# EAGLE library part LAN8700 (library JLB6_Processor)
MII/RMII Ethernet PHY LAN8700 Smsc
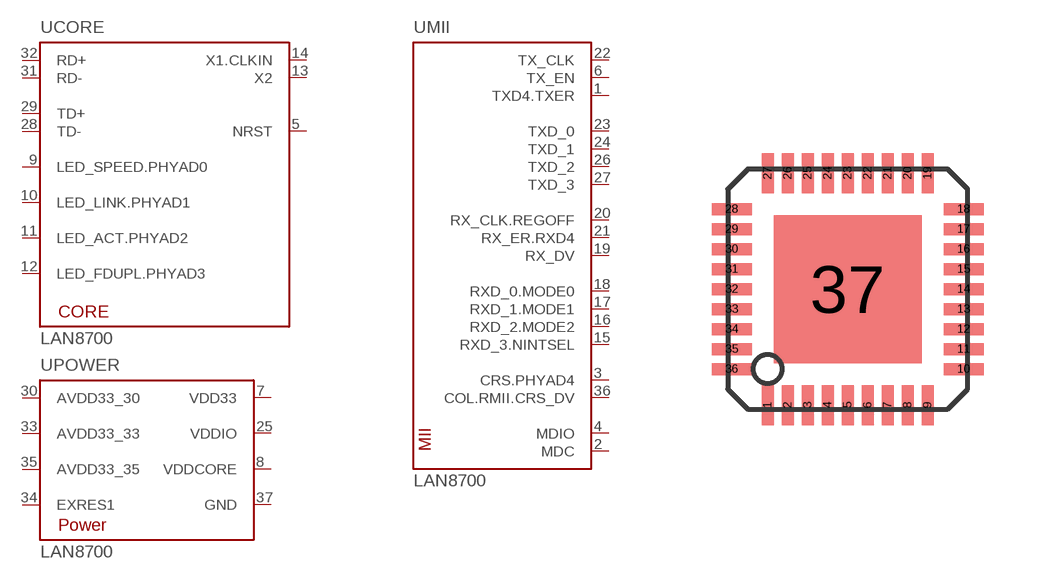
[diagram p17: symbol with the pads of QFN36; footprint QFN36]

Designator prefix U; gates CORE=LAN8700_CORE MII=LAN8700_MII POWER=LAN8700_POWER

## LAN8700  [QFN36]
1  MII:TXD4.TXER
2  MII:MDC  in
3  MII:CRS.PHYAD4
4  MII:MDIO
5  CORE:NRST  out
6  MII:TX_EN
7  POWER:VDD33  pwr
8  POWER:VDDCORE  pwr
9  CORE:LED_SPEED.PHYAD0
10  CORE:LED_LINK.PHYAD1
11  CORE:LED_ACT.PHYAD2
12  CORE:LED_FDUPL.PHYAD3
13  CORE:X2  out
14  CORE:X1.CLKIN  in
15  MII:RXD_3.NINTSEL
16  MII:RXD_2.MODE2
17  MII:RXD_1.MODE1
18  MII:RXD_0.MODE0
19  MII:RX_DV
20  MII:RX_CLK.REGOFF
21  MII:RX_ER.RXD4
22  MII:TX_CLK  out
23  MII:TXD_0
24  MII:TXD_1
25  POWER:VDDIO  pwr
26  MII:TXD_2
27  MII:TXD_3
28  CORE:TD-
29  CORE:TD+
30  POWER:AVDD33_30  pwr
31  CORE:RD-
32  CORE:RD+
33  POWER:AVDD33_33  pwr
34  POWER:EXRES1  in
35  POWER:AVDD33_35  pwr
36  MII:COL.RMII.CRS_DV
37  POWER:GND  pwr

## Footprint QFN36 (pad centres in mm)
smd 0.3 x 1: 1 -2,-2.9; 2 -1.5,-2.9; 3 -1,-2.9; 4 -0.5,-2.9; 5 0,-2.9; 6 0.5,-2.9; 7 1,-2.9; 8 1.5,-2.9; 9 2,-2.9; 19 2,2.9; 20 1.5,2.9; 21 1,2.9; 22 0.5,2.9; 23 0,2.9; 24 -0.5,2.9; 25 -1,2.9; 26 -1.5,2.9; 27 -2,2.9
smd 1 x 0.3: 10 2.9,-2; 11 2.9,-1.5; 12 2.9,-1; 13 2.9,-0.5; 14 2.9,0; 15 2.9,0.5; 16 2.9,1; 17 2.9,1.5; 18 2.9,2; 28 -2.9,2; 29 -2.9,1.5; 30 -2.9,1; 31 -2.9,0.5; 32 -2.9,0; 33 -2.9,-0.5; 34 -2.9,-1; 35 -2.9,-1.5; 36 -2.9,-2
smd 3.7 x 3.7: 37 0,0